# Altium footprint library 2014-04-10_10-38-29.PcbLib: 7 footprints
Each footprint in its own frame and in the unit in brackets; x right, y up, seen from the top. Pads: shape width x height; smd on the part's side, far side on the other; paste and mask are expansions set on the pad; w line width, h text height; cw(c..) or ccw(c..) is an arc to the next point about the centre after c.
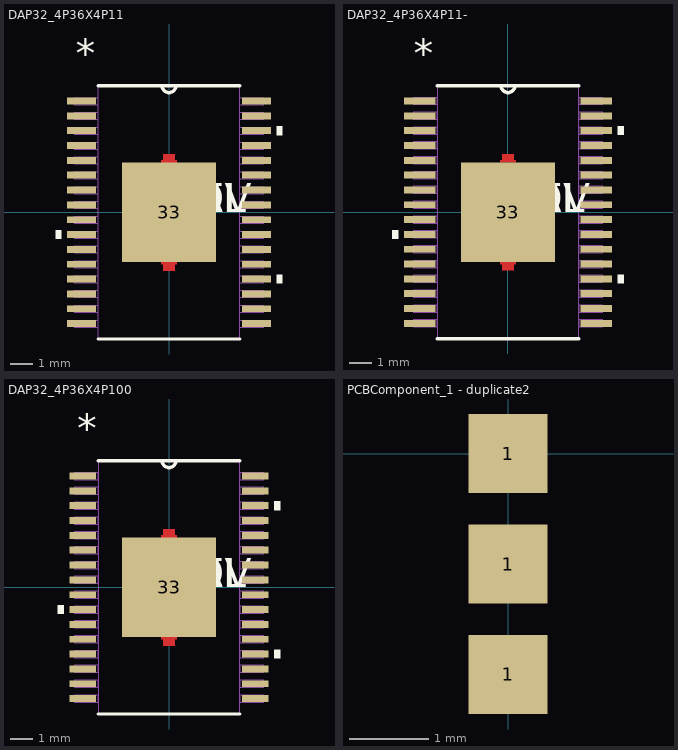
[diagram p0: the footprints below, top view; thin cyan lines are the x and y axes]

## DAP32_4P36X4P11 [mil]
pads (33):
  rect 50x12 smd: 1(-150.5,191.93) 2(-150.5,166.34) 3(-150.5,140.75) 4(-150.5,115.16) 5(-150.5,89.57) 6(-150.5,63.98) 7(-150.5,38.39) 8(-150.5,12.8) 9(-150.5,-12.8) 10(-150.5,-38.39) 11(-150.5,-63.98) 12(-150.5,-89.57) 13(-150.5,-115.16) 14(-150.5,-140.75) 15(-150.5,-166.34) 16(-150.5,-191.93) 17(150.5,-191.93) 18(150.5,-166.34) 19(150.5,-140.75) 20(150.5,-115.16) 21(150.5,-89.57) 22(150.5,-63.98) 23(150.5,-38.39) 24(150.5,-12.8) 25(150.5,12.8) 26(150.5,38.39) 27(150.5,63.98) 28(150.5,89.57) 29(150.5,115.16) 30(150.5,140.75) 31(150.5,166.34) 32(150.5,191.93)
  rect 161.81x171.65 smd: 33(0,0)
Top Layer:
  region: 13.78,-85.83 -13.78,-85.83 -13.78,-89.76 -9.84,-89.76 -9.84,-100.39 9.84,-100.39 9.84,-89.76 13.78,-89.76
  region: 13.78,85.83 -13.78,85.83 -13.78,89.76 -9.84,89.76 -9.84,100.39 9.84,100.39 9.84,89.76 13.78,89.76
Top Overlay:
  region: 185.5,148.25 195.5,148.25 195.5,133.25 185.5,133.25
  region: 185.5,-107.66 195.5,-107.66 195.5,-122.66 185.5,-122.66
  region: -185.5,-30.89 -195.5,-30.89 -195.5,-45.89 -185.5,-45.89
  lines w6: -122,-218.5 122,-218.5 ; -122,218.5 122,218.5 ; -12,218.5 ccw(c0,218.5) 12,218.5
  text "TOL" at 0,0 h50
  text "VAL" at 0,0 h50
  text "DEV" at 0,0 h50
  text "PN" at 0,0 h50
  text "*" at -160.5,248.93 h50
Top Solder:
  region: 13.78,-85.83 -13.78,-85.83 -13.78,-89.76 -9.84,-89.76 -9.84,-100.39 9.84,-100.39 9.84,-89.76 13.78,-89.76
  region: 13.78,85.83 -13.78,85.83 -13.78,89.76 -9.84,89.76 -9.84,100.39 9.84,100.39 9.84,89.76 13.78,89.76
Mechanical 1:
  lines w0: -12,218.5 ccw(c0,218.5) 12,218.5 ; -163.5,-197.93 -122,-197.93 -122,-185.93 -163.5,-185.93 -163.5,-197.93 ; -163.5,-172.34 -122,-172.34 -122,-160.34 -163.5,-160.34 -163.5,-172.34 ; -163.5,-146.75 -122,-146.75 -122,-134.75 -163.5,-134.75 -163.5,-146.75 ; -163.5,-121.16 -122,-121.16 -122,-109.16 -163.5,-109.16 -163.5,-121.16 ; -163.5,-95.57 -122,-95.57 -122,-83.57 -163.5,-83.57 -163.5,-95.57 ; -163.5,-69.98 -122,-69.98 -122,-57.98 -163.5,-57.98 -163.5,-69.98 ; -163.5,-44.39 -122,-44.39 -122,-32.39 -163.5,-32.39 -163.5,-44.39 ; -163.5,-18.8 -122,-18.8 -122,-6.8 -163.5,-6.8 -163.5,-18.8 ; -163.5,6.8 -122,6.8 -122,18.8 -163.5,18.8 -163.5,6.8 ; -163.5,32.39 -122,32.39 -122,44.39 -163.5,44.39 -163.5,32.39 ; -163.5,57.98 -122,57.98 -122,69.98 -163.5,69.98 -163.5,57.98 ; -163.5,83.57 -122,83.57 -122,95.57 -163.5,95.57 -163.5,83.57 ; -163.5,109.16 -122,109.16 -122,121.16 -163.5,121.16 -163.5,109.16 ; -163.5,134.75 -122,134.75 -122,146.75 -163.5,146.75 -163.5,134.75 ; -163.5,160.34 -122,160.34 -122,172.34 -163.5,172.34 -163.5,160.34 ; -163.5,185.93 -122,185.93 -122,197.93 -163.5,197.93 -163.5,185.93 ; -122,-218.5 -122,218.5 122,218.5 122,-218.5 -122,-218.5 ; 122,-197.93 163.5,-197.93 163.5,-185.93 122,-185.93 122,-197.93 ; 122,-172.34 163.5,-172.34 163.5,-160.34 122,-160.34 122,-172.34 ; 122,-146.75 163.5,-146.75 163.5,-134.75 122,-134.75 122,-146.75 ; 122,-121.16 163.5,-121.16 163.5,-109.16 122,-109.16 122,-121.16 ; 122,-95.57 163.5,-95.57 163.5,-83.57 122,-83.57 122,-95.57 ; 122,-69.98 163.5,-69.98 163.5,-57.98 122,-57.98 122,-69.98 ; 122,-44.39 163.5,-44.39 163.5,-32.39 122,-32.39 122,-44.39 ; 122,-18.8 163.5,-18.8 163.5,-6.8 122,-6.8 122,-18.8 ; 122,6.8 163.5,6.8 163.5,18.8 122,18.8 122,6.8 ; 122,32.39 163.5,32.39 163.5,44.39 122,44.39 122,32.39 ; 122,57.98 163.5,57.98 163.5,69.98 122,69.98 122,57.98 ; 122,83.57 163.5,83.57 163.5,95.57 122,95.57 122,83.57 ; 122,109.16 163.5,109.16 163.5,121.16 122,121.16 122,109.16 ; 122,134.75 163.5,134.75 163.5,146.75 122,146.75 122,134.75 ; 122,160.34 163.5,160.34 163.5,172.34 122,172.34 122,160.34 ; 122,185.93 163.5,185.93 163.5,197.93 122,197.93 122,185.93
  text "RefDes2" at 0,0 h50
  text "*" at -160.5,248.93 h50

## DAP32_4P36X4P11- [mil]
pads (33):
  rect 54x12 smd: 1(-152.5,191.93) 2(-152.5,166.34) 3(-152.5,140.75) 4(-152.5,115.16) 5(-152.5,89.57) 6(-152.5,63.98) 7(-152.5,38.39) 8(-152.5,12.8) 9(-152.5,-12.8) 10(-152.5,-38.39) 11(-152.5,-63.98) 12(-152.5,-89.57) 13(-152.5,-115.16) 14(-152.5,-140.75) 15(-152.5,-166.34) 16(-152.5,-191.93) 17(152.5,-191.93) 18(152.5,-166.34) 19(152.5,-140.75) 20(152.5,-115.16) 21(152.5,-89.57) 22(152.5,-63.98) 23(152.5,-38.39) 24(152.5,-12.8) 25(152.5,12.8) 26(152.5,38.39) 27(152.5,63.98) 28(152.5,89.57) 29(152.5,115.16) 30(152.5,140.75) 31(152.5,166.34) 32(152.5,191.93)
  rect 161.81x171.65 smd: 33(0,0)
Top Layer:
  region: 13.78,85.83 -13.78,85.83 -13.78,89.76 -9.84,89.76 -9.84,100.39 9.84,100.39 9.84,89.76 13.78,89.76
  region: 13.78,-85.83 -13.78,-85.83 -13.78,-89.76 -9.84,-89.76 -9.84,-100.39 9.84,-100.39 9.84,-89.76 13.78,-89.76
Top Overlay:
  region: -189.5,-30.89 -199.5,-30.89 -199.5,-45.89 -189.5,-45.89
  region: 189.5,-107.66 199.5,-107.66 199.5,-122.66 189.5,-122.66
  region: 189.5,148.25 199.5,148.25 199.5,133.25 189.5,133.25
  lines w6: -122,-218.5 122,-218.5 ; -122,218.5 122,218.5 ; -12,218.5 ccw(c0,218.5) 12,218.5
  text "*" at -162.5,248.93 h50
  text "PN" at 0,0 h50
  text "DEV" at 0,0 h50
  text "VAL" at 0,0 h50
  text "TOL" at 0,0 h50
Top Solder:
  region: 13.78,85.83 -13.78,85.83 -13.78,89.76 -9.84,89.76 -9.84,100.39 9.84,100.39 9.84,89.76 13.78,89.76
  region: 13.78,-85.83 -13.78,-85.83 -13.78,-89.76 -9.84,-89.76 -9.84,-100.39 9.84,-100.39 9.84,-89.76 13.78,-89.76
Mechanical 1:
  lines w0: -12,218.5 ccw(c0,218.5) 12,218.5 ; -163.5,-197.93 -163.5,-185.93 -122,-185.93 -122,-197.93 -163.5,-197.93 ; -163.5,-172.34 -163.5,-160.34 -122,-160.34 -122,-172.34 -163.5,-172.34 ; -163.5,-146.75 -163.5,-134.75 -122,-134.75 -122,-146.75 -163.5,-146.75 ; -163.5,-121.16 -163.5,-109.16 -122,-109.16 -122,-121.16 -163.5,-121.16 ; -163.5,-95.57 -163.5,-83.57 -122,-83.57 -122,-95.57 -163.5,-95.57 ; -163.5,-69.98 -163.5,-57.98 -122,-57.98 -122,-69.98 -163.5,-69.98 ; -163.5,-44.39 -163.5,-32.39 -122,-32.39 -122,-44.39 -163.5,-44.39 ; -163.5,-18.8 -163.5,-6.8 -122,-6.8 -122,-18.8 -163.5,-18.8 ; -163.5,6.8 -163.5,18.8 -122,18.8 -122,6.8 -163.5,6.8 ; -163.5,32.39 -163.5,44.39 -122,44.39 -122,32.39 -163.5,32.39 ; -163.5,57.98 -163.5,69.98 -122,69.98 -122,57.98 -163.5,57.98 ; -163.5,83.57 -163.5,95.57 -122,95.57 -122,83.57 -163.5,83.57 ; -163.5,109.16 -163.5,121.16 -122,121.16 -122,109.16 -163.5,109.16 ; -163.5,134.75 -163.5,146.75 -122,146.75 -122,134.75 -163.5,134.75 ; -163.5,160.34 -163.5,172.34 -122,172.34 -122,160.34 -163.5,160.34 ; -163.5,185.93 -163.5,197.93 -122,197.93 -122,185.93 -163.5,185.93 ; -122,-218.5 122,-218.5 122,218.5 -122,218.5 -122,-218.5 ; 122,-197.93 122,-185.93 163.5,-185.93 163.5,-197.93 122,-197.93 ; 122,-172.34 122,-160.34 163.5,-160.34 163.5,-172.34 122,-172.34 ; 122,-146.75 122,-134.75 163.5,-134.75 163.5,-146.75 122,-146.75 ; 122,-121.16 122,-109.16 163.5,-109.16 163.5,-121.16 122,-121.16 ; 122,-95.57 122,-83.57 163.5,-83.57 163.5,-95.57 122,-95.57 ; 122,-69.98 122,-57.98 163.5,-57.98 163.5,-69.98 122,-69.98 ; 122,-44.39 122,-32.39 163.5,-32.39 163.5,-44.39 122,-44.39 ; 122,-18.8 122,-6.8 163.5,-6.8 163.5,-18.8 122,-18.8 ; 122,6.8 122,18.8 163.5,18.8 163.5,6.8 122,6.8 ; 122,32.39 122,44.39 163.5,44.39 163.5,32.39 122,32.39 ; 122,57.98 122,69.98 163.5,69.98 163.5,57.98 122,57.98 ; 122,83.57 122,95.57 163.5,95.57 163.5,83.57 122,83.57 ; 122,109.16 122,121.16 163.5,121.16 163.5,109.16 122,109.16 ; 122,134.75 122,146.75 163.5,146.75 163.5,134.75 122,134.75 ; 122,160.34 122,172.34 163.5,172.34 163.5,160.34 122,160.34 ; 122,185.93 122,197.93 163.5,197.93 163.5,185.93 122,185.93
  text "*" at -162.5,248.93 h50
  text "RefDes2" at 0,0 h50

## DAP32_4P36X4P100 [mil]
pads (33):
  rect 46x12 smd: 1(-148.5,191.93) 2(-148.5,166.34) 3(-148.5,140.75) 4(-148.5,115.16) 5(-148.5,89.57) 6(-148.5,63.98) 7(-148.5,38.39) 8(-148.5,12.8) 9(-148.5,-12.8) 10(-148.5,-38.39) 11(-148.5,-63.98) 12(-148.5,-89.57) 13(-148.5,-115.16) 14(-148.5,-140.75) 15(-148.5,-166.34) 16(-148.5,-191.93) 17(148.5,-191.93) 18(148.5,-166.34) 19(148.5,-140.75) 20(148.5,-115.16) 21(148.5,-89.57) 22(148.5,-63.98) 23(148.5,-38.39) 24(148.5,-12.8) 25(148.5,12.8) 26(148.5,38.39) 27(148.5,63.98) 28(148.5,89.57) 29(148.5,115.16) 30(148.5,140.75) 31(148.5,166.34) 32(148.5,191.93)
  rect 161.81x171.65 smd: 33(0,0)
Top Layer:
  region: 13.78,85.83 -13.78,85.83 -13.78,89.76 -9.84,89.76 -9.84,100.39 9.84,100.39 9.84,89.76 13.78,89.76
  region: 13.78,-85.83 -13.78,-85.83 -13.78,-89.76 -9.84,-89.76 -9.84,-100.39 9.84,-100.39 9.84,-89.76 13.78,-89.76
Top Overlay:
  region: -181.5,-30.89 -191.5,-30.89 -191.5,-45.89 -181.5,-45.89
  region: 181.5,-107.66 191.5,-107.66 191.5,-122.66 181.5,-122.66
  region: 181.5,148.25 191.5,148.25 191.5,133.25 181.5,133.25
  lines w6: -122,-218.5 122,-218.5 ; -122,218.5 122,218.5 ; -12,218.5 ccw(c0,218.5) 12,218.5
  text "*" at -158.5,248.93 h50
  text "PN" at 0,0 h50
  text "DEV" at 0,0 h50
  text "VAL" at 0,0 h50
  text "TOL" at 0,0 h50
Top Solder:
  region: 13.78,85.83 -13.78,85.83 -13.78,89.76 -9.84,89.76 -9.84,100.39 9.84,100.39 9.84,89.76 13.78,89.76
  region: 13.78,-85.83 -13.78,-85.83 -13.78,-89.76 -9.84,-89.76 -9.84,-100.39 9.84,-100.39 9.84,-89.76 13.78,-89.76
Mechanical 1:
  lines w0: -12,218.5 ccw(c0,218.5) 12,218.5 ; -163.5,-197.93 -163.5,-185.93 -122,-185.93 -122,-197.93 -163.5,-197.93 ; -163.5,-172.34 -163.5,-160.34 -122,-160.34 -122,-172.34 -163.5,-172.34 ; -163.5,-146.75 -163.5,-134.75 -122,-134.75 -122,-146.75 -163.5,-146.75 ; -163.5,-121.16 -163.5,-109.16 -122,-109.16 -122,-121.16 -163.5,-121.16 ; -163.5,-95.57 -163.5,-83.57 -122,-83.57 -122,-95.57 -163.5,-95.57 ; -163.5,-69.98 -163.5,-57.98 -122,-57.98 -122,-69.98 -163.5,-69.98 ; -163.5,-44.39 -163.5,-32.39 -122,-32.39 -122,-44.39 -163.5,-44.39 ; -163.5,-18.8 -163.5,-6.8 -122,-6.8 -122,-18.8 -163.5,-18.8 ; -163.5,6.8 -163.5,18.8 -122,18.8 -122,6.8 -163.5,6.8 ; -163.5,32.39 -163.5,44.39 -122,44.39 -122,32.39 -163.5,32.39 ; -163.5,57.98 -163.5,69.98 -122,69.98 -122,57.98 -163.5,57.98 ; -163.5,83.57 -163.5,95.57 -122,95.57 -122,83.57 -163.5,83.57 ; -163.5,109.16 -163.5,121.16 -122,121.16 -122,109.16 -163.5,109.16 ; -163.5,134.75 -163.5,146.75 -122,146.75 -122,134.75 -163.5,134.75 ; -163.5,160.34 -163.5,172.34 -122,172.34 -122,160.34 -163.5,160.34 ; -163.5,185.93 -163.5,197.93 -122,197.93 -122,185.93 -163.5,185.93 ; -122,-218.5 122,-218.5 122,218.5 -122,218.5 -122,-218.5 ; 122,-197.93 122,-185.93 163.5,-185.93 163.5,-197.93 122,-197.93 ; 122,-172.34 122,-160.34 163.5,-160.34 163.5,-172.34 122,-172.34 ; 122,-146.75 122,-134.75 163.5,-134.75 163.5,-146.75 122,-146.75 ; 122,-121.16 122,-109.16 163.5,-109.16 163.5,-121.16 122,-121.16 ; 122,-95.57 122,-83.57 163.5,-83.57 163.5,-95.57 122,-95.57 ; 122,-69.98 122,-57.98 163.5,-57.98 163.5,-69.98 122,-69.98 ; 122,-44.39 122,-32.39 163.5,-32.39 163.5,-44.39 122,-44.39 ; 122,-18.8 122,-6.8 163.5,-6.8 163.5,-18.8 122,-18.8 ; 122,6.8 122,18.8 163.5,18.8 163.5,6.8 122,6.8 ; 122,32.39 122,44.39 163.5,44.39 163.5,32.39 122,32.39 ; 122,57.98 122,69.98 163.5,69.98 163.5,57.98 122,57.98 ; 122,83.57 122,95.57 163.5,95.57 163.5,83.57 122,83.57 ; 122,109.16 122,121.16 163.5,121.16 163.5,109.16 122,109.16 ; 122,134.75 122,146.75 163.5,146.75 163.5,134.75 122,134.75 ; 122,160.34 122,172.34 163.5,172.34 163.5,160.34 122,160.34 ; 122,185.93 122,197.93 163.5,197.93 163.5,185.93 122,185.93
  text "*" at -158.5,248.93 h50
  text "RefDes2" at 0,0 h50

## PCBComponent_1 [mil]

## PCBComponent_1 - duplicate [mil]
3D body: height 0, standoff -71.81, extent -67.91,-64.96 67.92,64.96

## PCBComponent_1 - duplicate1 [mil]

## PCBComponent_1 - duplicate2 [mm]
pads (3):
  rect 1x1 smd: 1(0,-2.794) 1(0,-1.397) 1(0,0)